# EAGLE library part AD8138 (library ad8138)
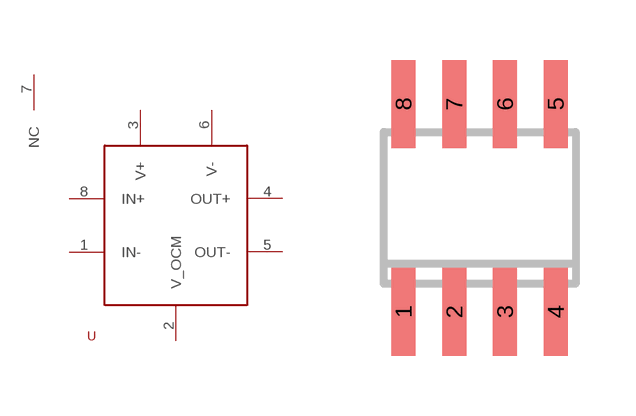
[diagram p0: symbol with the pads of SOIC8; footprint SOIC8]

Designator prefix -

## AD8138  [SOIC8]
1  IN-  in
2  V_OCM  pwr
3  V+  pwr
4  OUT+  out
5  OUT-  out
6  V-  pwr
7  NC  nc
8  IN+  in

## Footprint SOIC8 (pad centres in mm)
Small Outline IC
smd 0.6 x 2.2: 1 -1.905,-2.6; 2 -0.635,-2.6; 3 0.635,-2.6; 4 1.905,-2.6; 5 1.905,2.6; 6 0.635,2.6; 7 -0.635,2.6; 8 -1.905,2.6